# Altium schematic symbol library Header IDC 24.SchLib: 1 symbol
Pins are listed as number, name and electrical type; pins without a type are passive.

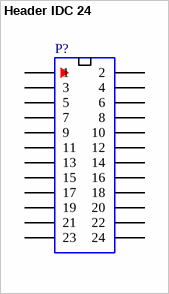
[diagram p0: symbol Header IDC 24]

## Header IDC 24
designator P?
Boxed/shrouded header, 2×12, 24-Pin (IDC)
pins: 1, 2, 3, 4, 5, 6, 7, 8, 9, 10, 11, 12, 13, 14, 15, 16, 17, 18, 19, 20, 21, 22, 23, 24